# EAGLE library part 55091-0409 (library macintosh)
0.635 mm PITCH B TO B CONN. Source: http://www.molex.com/pdm_docs/sd/550911609_sd.pdf
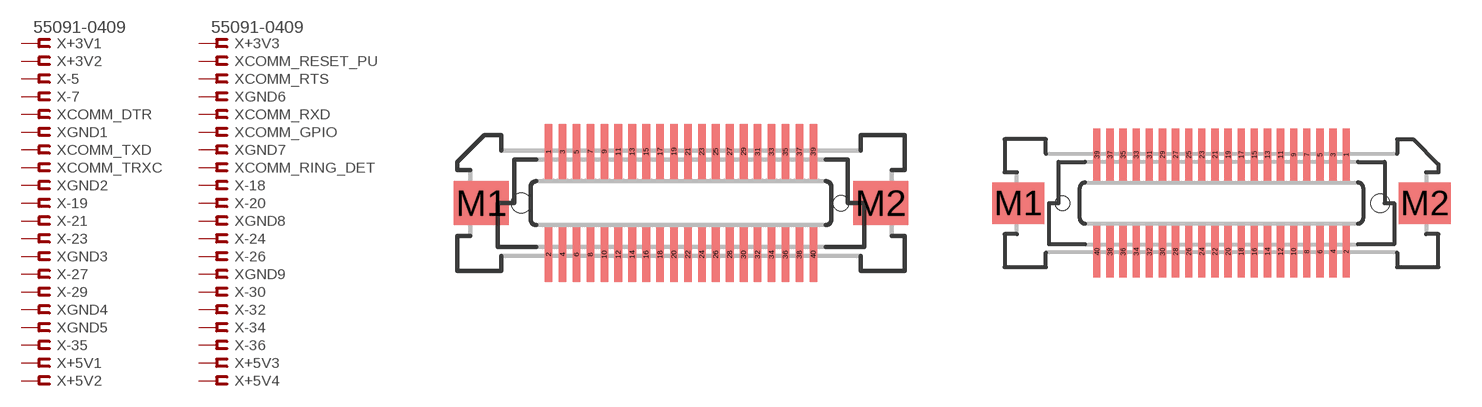
[diagram p0: symbol with the pads of 55091-0409; footprints 55091-0409, 55091-0409-REV]

Designator prefix X; gates +3V1=FV +3V3=FV +3V2=F COMM_RESET_PU=F -5=F COMM_RTS=F -7=F GND6=F COMM_DTR=F COMM_RXD=F GND1=F COMM_GPIO=F COMM_TXD=F GND7=F COMM_TRXC=F COMM_RING_DET=F GND2=F -18=F -19=F -20=F -21=F GND8=F -23=F -24=F GND3=F -26=F -27=F GND9=F -29=F -30=F GND4=F -32=F GND5=F -34=F -35=F -36=F +5V1=F +5V3=F +5V2=F +5V4=F

## 55091-0409 (OC_FARNELL: unknown; OC_NEWARK: unknown)  [55091-0409]
1  +3V1:S  pas
2  +3V3:S  pas
3  +3V2:S  pas
4  COMM_RESET_PU:S  pas
5  -5:S  pas
6  COMM_RTS:S  pas
7  -7:S  pas
8  GND6:S  pas
9  COMM_DTR:S  pas
10  COMM_RXD:S  pas
11  GND1:S  pas
12  COMM_GPIO:S  pas
13  COMM_TXD:S  pas
14  GND7:S  pas
15  COMM_TRXC:S  pas
16  COMM_RING_DET:S  pas
17  GND2:S  pas
18  -18:S  pas
19  -19:S  pas
20  -20:S  pas
21  -21:S  pas
22  GND8:S  pas
23  -23:S  pas
24  -24:S  pas
25  GND3:S  pas
26  -26:S  pas
27  -27:S  pas
28  GND9:S  pas
29  -29:S  pas
30  -30:S  pas
31  GND4:S  pas
32  -32:S  pas
33  GND5:S  pas
34  -34:S  pas
35  -35:S  pas
36  -36:S  pas
37  +5V1:S  pas
38  +5V3:S  pas
39  +5V2:S  pas
40  +5V4:S  pas

## 55091-0409REV  [55091-0409-REV]
Pads as for 55091-0409

## Footprint 55091-0409 (pad centres in mm)
Power Mac G4 Modem Connector Part: Molex 55091-0409 (0.635 mm PITCH B TO B CONN). Datasheet: http://www.molex.com/pdm_docs/sd/550911609_sd.pdf
smd 0.35 x 2.5: 1 -6.032,2.35; 2 -6.032,-2.35; 3 -5.397,2.35; 4 -5.397,-2.35; 5 -4.763,2.35; 6 -4.763,-2.35; 7 -4.128,2.35; 8 -4.128,-2.35; 9 -3.493,2.35; 10 -3.493,-2.35; 11 -2.857,2.35; 12 -2.857,-2.35; 13 -2.223,2.35; 14 -2.223,-2.35; 15 -1.587,2.35; 16 -1.587,-2.35; 17 -0.953,2.35; 18 -0.953,-2.35; 19 -0.318,2.35; 20 -0.318,-2.35; 21 0.318,2.35; 22 0.318,-2.35; 23 0.953,2.35; 24 0.953,-2.35; 25 1.587,2.35; 26 1.587,-2.35; 27 2.223,2.35; 28 2.223,-2.35; 29 2.857,2.35; 30 2.857,-2.35; 31 3.493,2.35; 32 3.493,-2.35; 33 4.128,2.35; 34 4.128,-2.35; 35 4.763,2.35; 36 4.763,-2.35; 37 5.397,2.35; 38 5.397,-2.35; 39 6.032,2.35; 40 6.032,-2.35
smd 2.5 x 2: M1 -9.1,0; M2 9.1,0
hole 0.9 at -7.285,0
hole 0.7 at 7.285,0

## Footprint 55091-0409-REV (pad centres in mm)
Power Mac G4 Modem Connector Part: Molex 55091-0409 (0.635 mm PITCH B TO B CONN). Datasheet: http://www.molex.com/pdm_docs/sd/550911609_sd.pdf
smd 0.35 x 2.5: 1 6.032,2.35; 2 6.032,-2.35; 3 5.397,2.35; 4 5.397,-2.35; 5 4.763,2.35; 6 4.763,-2.35; 7 4.128,2.35; 8 4.128,-2.35; 9 3.493,2.35; 10 3.493,-2.35; 11 2.857,2.35; 12 2.857,-2.35; 13 2.223,2.35; 14 2.223,-2.35; 15 1.587,2.35; 16 1.587,-2.35; 17 0.953,2.35; 18 0.953,-2.35; 19 0.318,2.35; 20 0.318,-2.35; 21 -0.318,2.35; 22 -0.318,-2.35; 23 -0.953,2.35; 24 -0.953,-2.35; 25 -1.587,2.35; 26 -1.587,-2.35; 27 -2.223,2.35; 28 -2.223,-2.35; 29 -2.857,2.35; 30 -2.857,-2.35; 31 -3.493,2.35; 32 -3.493,-2.35; 33 -4.128,2.35; 34 -4.128,-2.35; 35 -4.763,2.35; 36 -4.763,-2.35; 37 -5.397,2.35; 38 -5.397,-2.35; 39 -6.032,2.35; 40 -6.032,-2.35
smd 2.5 x 2: M1 -9.835,0; M2 9.835,0
hole 0.7 at -7.685,0
hole 0.9 at 7.685,0